# Altium footprint library J PCB lib.PcbLib: 461 footprints (part 22 of 29)
Each footprint in its own frame and in the unit in brackets; x right, y up, seen from the top. Pads: shape width x height; smd on the part's side, far side on the other; paste and mask are expansions set on the pad; w line width, h text height; cw(c..) or ccw(c..) is an arc to the next point about the centre after c.
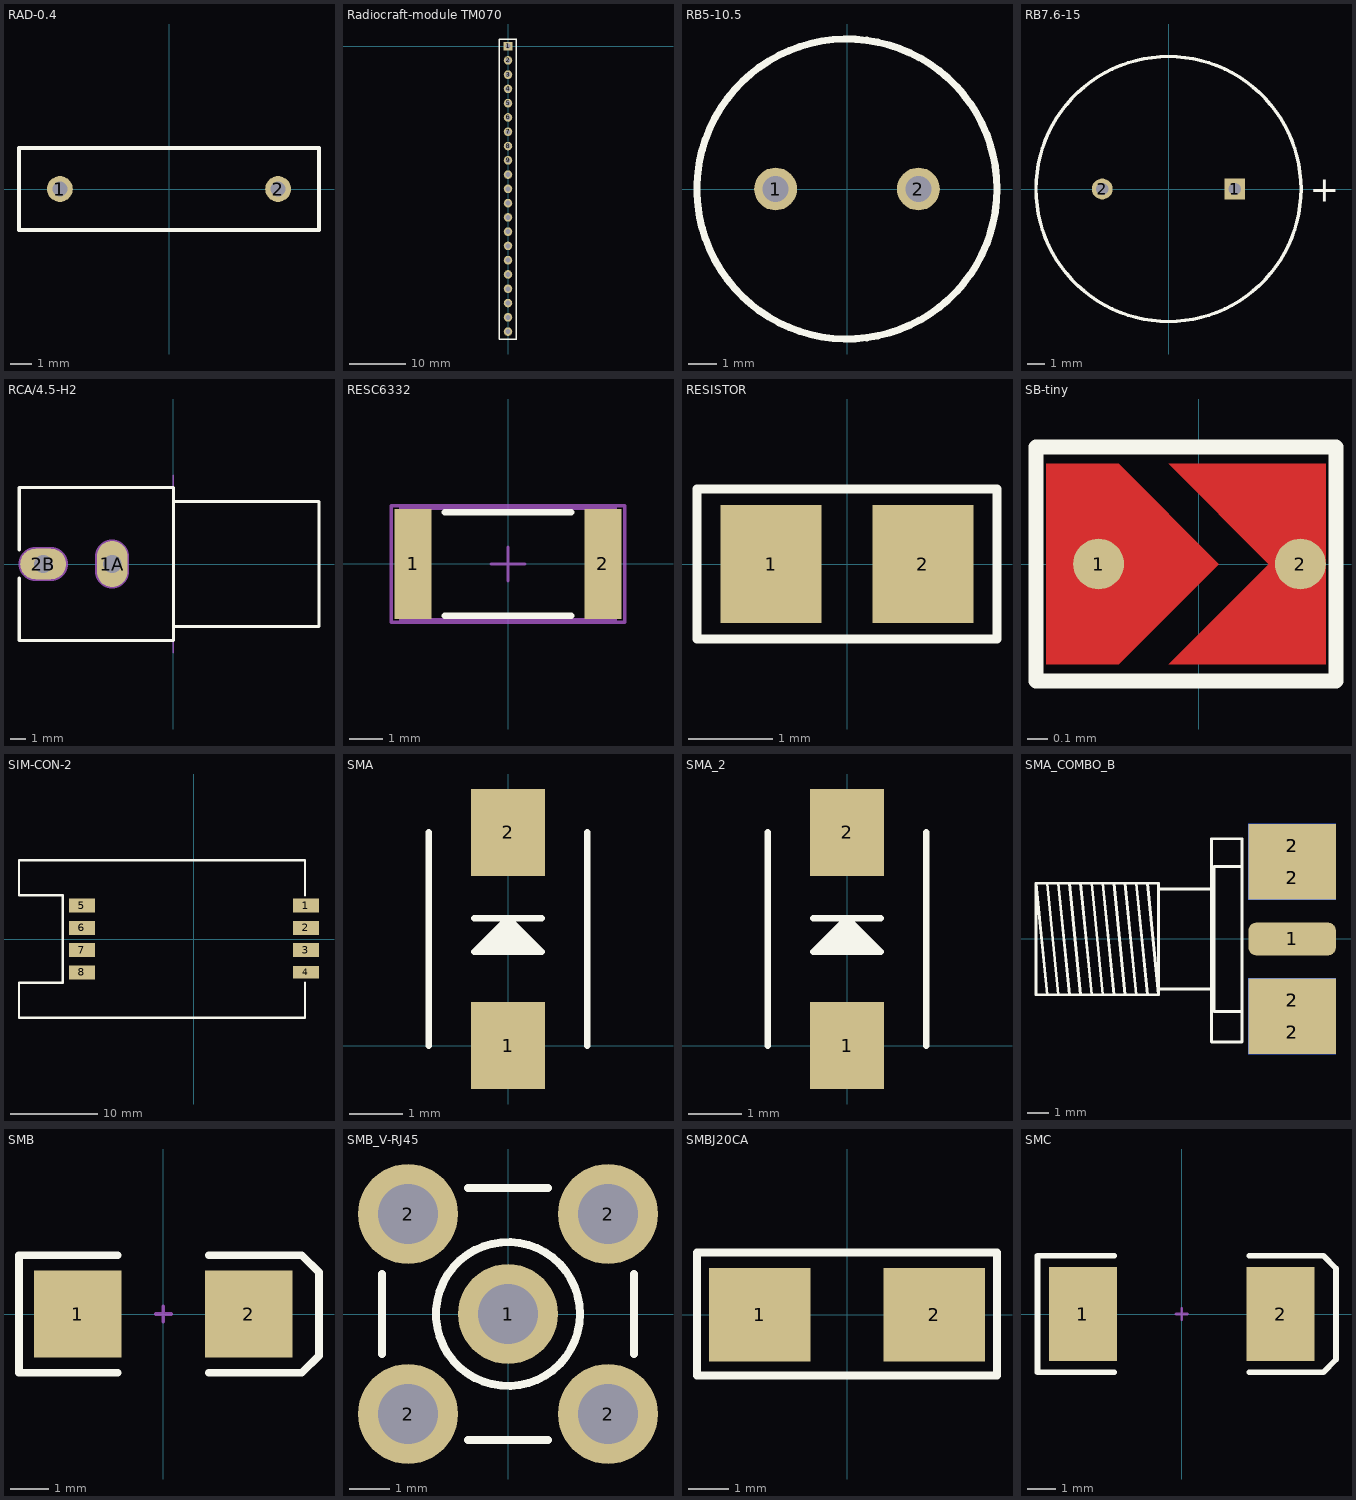
[diagram p21: the footprints below, top view; thin cyan lines are the x and y axes]

## RAD-0.4 [mm] "Radial Cap, Thru-Hole; 2 Leads; 0.4 in Pin Spacing"
pads (2):
  round 1.2 hole 0.7: 1(-5.08,0) 2(5.08,0)
Top Overlay:
  lines w0.2: -6.985,-1.905 6.985,-1.905 6.985,1.905 -6.985,1.905 -6.985,-1.905

## Radiocraft-module TM070 [mil] "0.1 inch pitch and 1mm dia"
pads (21):
  rect 60x60 hole 35: 1(0,0)
  round 60 hole 35: 2(0,-100) 3(0,-200) 4(0,-300) 5(0,-400) 6(0,-500) 7(0,-600) 8(0,-700) 9(0,-800) 10(0,-900) 11(0,-1000) 12(0,-1100) 13(0,-1200) 14(0,-1300) 15(0,-1400) 16(0,-1500) 17(0,-1600) 18(0,-1700) 19(0,-1800) 20(0,-1900) 21(0,-2000)
Top Overlay:
  lines w10: 59.09,-2052 59.09,50 ; 60,-2052 -60,-2052 -60,50 60,50

## RB5-10.5 [mm] "Capacitor (Radial); 2 Leads"
pads (2):
  round 1.5 hole 0.9: 1(-2.5,0) 2(2.5,0)
Top Overlay:
  circle w0.25: c0,0 r5.25
Mechanical 1:
  circle w0.02: c0,0 r5.25

## RB7.6-15 [mm] "Polarized Capacitor (Radial); 2 Leads"
pads (2):
  rect 1.2x1.2 hole 0.7: 1(3.81,0)
  round 1.2 hole 0.7: 2(-3.81,0)
Top Overlay:
  circle w0.2: c0,0 r7.62
  text "+" at 8.132,-0.737 h1.5

## RCA/4.5-H2 [mm] "Two Conductor Jack (RCA), Right Angle, Thru-Hole, Body 10 x 10 x 13 mm (WxTxH)"
height 13
pads (2):
  oval 2x3 hole 1.2: 1A(-4,0)
  oval 3x2 hole 1.2: 2B(-8.496,0)
Top Overlay:
  lines w0.2: -10.075,5 -0.018,5 ; -10.057,-0.92 -10.057,-5 0,-5 0,5 ; -10.057,0.92 -10.057,5 ; 0,-4.065 9.5,-4.065 9.5,4.065 0,4.065
Mechanical 1:
  lines w0.1: 0,-5.8 0,5.8
  lines w1.2: -8.996,0 -7.996,0 ; -4,-0.5 -4,0.5
  text "Mech 2 - Clearance, move to internal plane if present" at -10.057,6.342 h0.3
  text "Mech 1 - Slot cut-out" at -10.057,6.842 h0.3
  text "Assign keep-out area to slot" at -10.057,8.342 h0.3
  text "Slot 1.2x2.2mm, PTH" at -10.057,7.342 h0.3
  text "Alert PCB fab to slot details" at -10.057,7.842 h0.3
  text "PCB Edge" at -0.333,-4.618 h0.25
Mechanical 2:
  lines w2.216: -8.996,0 -7.996,0 ; -4,-0.5 -4,0.5

## RESC6332 [mm] "Chip Resistor, Body 6.3x3.2mm, IPC High Density"
height 0.9
pads (2):
  rect 1.1x3.3 smd: 1(-2.85,0) 2(2.85,0)
Top Overlay:
  lines w0.2: -1.9,-1.55 1.9,-1.55 ; -1.9,1.55 1.9,1.55
Mechanical 13:
  lines w0.1: -3.225,-1.675 3.225,-1.675 3.225,1.675 -3.225,1.675 -3.225,-1.675
Mechanical 15:
  lines w0.1: -0.5,0 0.5,0 ; 0,-0.5 0,0.5 ; -3.5,-1.75 3.5,-1.75 3.5,1.75 -3.5,1.75 -3.5,-1.75
3D body: height 0.9, standoff 0, extent -3.225,-1.675 3.225,1.675

## RESISTOR [mm] "8085"
pads (2):
  rect 1.2x1.4 smd: 1(-0.9,0) 2(0.9,0)
Top Overlay:
  lines w0.102: -1.778,-0.889 1.778,-0.889 1.778,0.889 -1.778,0.889 -1.778,-0.889

## SB-tiny [mil] "Pad no components"
height 10.24
pads (2):
  round 10 smd paste-10 mask+0.04: 1(-19.68,0)
  round 10 smd paste-10.08 mask+0.04: 2(20,0)
Top Layer:
  region: -5.91,19.68 13.78,0 -5.91,-19.68 25,-19.68 25,19.68
  region: -30,-19.68 -30,19.68 -15.75,19.68 3.94,0 -15.75,-19.68
Top Overlay:
  lines w2.95: -32,-23 27,-23 27,23 -32,23 -32,-23
Top Solder:
  region: -30,21.65 25,21.65 25,-21.65 -30,-21.65

## SIM-CON-2 [mm] "SIM-CON-2"
height 3
pads (8):
  rect 3x1.6 smd: 1(12.8,3.81) 2(12.8,1.27) 3(12.8,-1.27) 5(-12.8,3.81) 6(-12.8,1.27) 7(-12.8,-1.27) 8(-12.8,-3.81)
  rect 3x1.4 smd: 4(12.8,-3.81)
Top Overlay:
  lines w0.25: 12.7,-5 12.7,-9 -20,-9 -20,-5 -15,-5 -15,5 -20,5 -20,9 12.7,9 12.7,5

## SMA [mm]
height 2.45
pads (2):
  rect 1.4x1.64 smd: 1(0,0) 2(0,4.03)
Top Overlay:
  lines w0.127: -1.5,0 -1.5,4.03 ; -0.635,2.408 0.635,2.408 ; -0.564,1.844 0.477,1.844 0.477,1.931 -0.477,1.931 ; -0.43,1.978 0.43,1.978 ; -0.37,2.038 0.37,2.038 ; -0.294,2.114 0.294,2.114 ; -0.213,2.195 0.213,2.195 ; -0.188,2.22 0.188,2.22 ; -0.025,2.114 -0.025,2.408 ; 0.051,1.956 0.051,2.408 ; 1.5,0 1.5,4.03 ; -0.635,1.773 0.635,1.773 0,2.408 -0.635,1.773

## SMA_2 [mm]
pads (2):
  rect 1.4x1.64 smd: 1(0,0) 2(0,4.03)
Top Overlay:
  lines w0.127: -1.5,0 -1.5,4.03 ; -0.635,2.408 0.635,2.408 ; -0.564,1.844 0.477,1.844 0.477,1.931 -0.477,1.931 ; -0.43,1.978 0.43,1.978 ; -0.37,2.038 0.37,2.038 ; -0.294,2.114 0.294,2.114 ; -0.213,2.195 0.213,2.195 ; -0.188,2.22 0.188,2.22 ; -0.025,2.114 -0.025,2.408 ; 0.051,1.956 0.051,2.408 ; 1.5,0 1.5,4.03 ; -0.635,1.773 0.635,1.773 0,2.408 -0.635,1.773

## SMA_COMBO_B [mm]
height 12.83
pads (9):
  rrect50% 4x1.5 smd: 1(-2.921,0)
  rect 4x2 smd: 2(-2.921,-4.25) 2(-2.921,-2.794) 2(-2.921,2.794) 2(-2.921,4.25)
  rect 4x2 smd far side: 2(-2.921,-4.25) 2(-2.921,-2.794) 2(-2.921,2.794) 2(-2.921,4.25)
Top Overlay:
  lines w0.127: -14.097,-2.54 -14.605,2.54 ; -14.097,2.54 -13.589,-2.54 ; -13.589,2.54 -13.081,-2.54 ; -13.081,2.54 -12.573,-2.54 ; -12.573,2.54 -12.065,-2.54 ; -12.065,2.54 -11.557,-2.54 ; -11.557,2.54 -11.049,-2.54 ; -11.049,2.54 -10.541,-2.54 ; -10.541,2.54 -10.033,-2.54 ; -10.033,2.54 -9.525,-2.54 ; -9.525,2.54 -9.017,-2.54 ; -6.477,-2.286 -9.017,-2.286 ; -6.477,2.286 -9.017,2.286 ; -14.605,2.54 -14.605,-2.54 -9.017,-2.54 ; -14.605,2.54 -9.017,2.54 -9.017,2.286 ; -9.017,-2.54 -9.017,-2.286 ; -9.017,-2.286 -9.017,-1.016 -9.017,1.016 -9.017,2.286 ; -6.603,-4.699 -5.207,-4.699 -5.207,4.572 -6.603,4.572 -6.603,-4.699 ; -6.477,-3.302 -5.207,-3.302 -5.207,3.302 -6.477,3.302 -6.477,-3.302

## SMB [mm] "DO-214-AA/SMB; 2 C-Bend Leads; Body 5.3 x 3.6 mm, inc. leads (LxW)"
height 2.54
pads (2):
  rect 2.3x2.3 smd: 1(-2.25,0) 2(2.25,0)
Top Overlay:
  lines w0.2: -1.2,-1.55 -3.8,-1.55 -3.8,1.55 -1.2,1.55 ; 1.2,-1.55 3.65,-1.55 4.1,-1.1 4.1,1.1 3.65,1.55 1.2,1.55
Mechanical 1:
  lines w0.1: -0.2,0 0.2,0 ; 0,-0.2 0,0.2

## SMB_V-RJ45 [mm] "Connector; SMB Straight"
pads (5):
  round 2.5 hole 1.5: 1(0,0) 2(-2.5,-2.5) 2(-2.5,2.5) 2(2.5,-2.5) 2(2.5,2.5)
Top Overlay:
  circle w0.2: c0,0 r1.8
  lines w0.2: -3.15,-1 -3.15,1 ; -1,-3.15 1,-3.15 ; -1,3.15 1,3.15 ; 3.15,-1 3.15,1
Mechanical 1:
  circle w0.025: c0,0 r0.2
  circle w0.025: c0,0 r1.05
  circle w0.025: c0,0 r1.8

## SMBJ20CA [mm] "TVS DIODE BIDIRECTIONAL"
pads (2):
  rect 2.5x2.3 smd: 1(-2.15,0) 2(2.15,0)
Top Overlay:
  lines w0.2: -3.7,-1.5 3.7,-1.5 3.7,1.532 1.807,1.532 -1.807,1.532 -3.7,1.532 -3.7,-0.673 -3.7,-1.5

## SMC [mm] "DO-214-AB/SMC; 2 C-Bend Leads; Body 7.9 x 5.9 mm, inc. leads (LxW)"
height 2.65
pads (2):
  rect 2.4x3.3 smd: 1(-3.475,0) 2(3.475,0)
Top Overlay:
  lines w0.2: -2.375,-2.05 -5.075,-2.05 -5.075,2.05 -2.375,2.05 ; 2.375,-2.05 4.975,-2.05 5.425,-1.6 5.425,1.6 4.975,2.055 ; 2.375,2.05 4.975,2.05
Mechanical 1:
  lines w0.1: -0.2,0 0.2,0 ; 0,-0.2 0,0.2